# Altium footprint library Copy of PcbLib1.PcbLib: 29 footprints (part 2 of 2)
Each footprint in its own frame and in the unit in brackets; x right, y up, seen from the top. Pads: shape width x height; smd on the part's side, far side on the other; paste and mask are expansions set on the pad; w line width, h text height; cw(c..) or ccw(c..) is an arc to the next point about the centre after c.
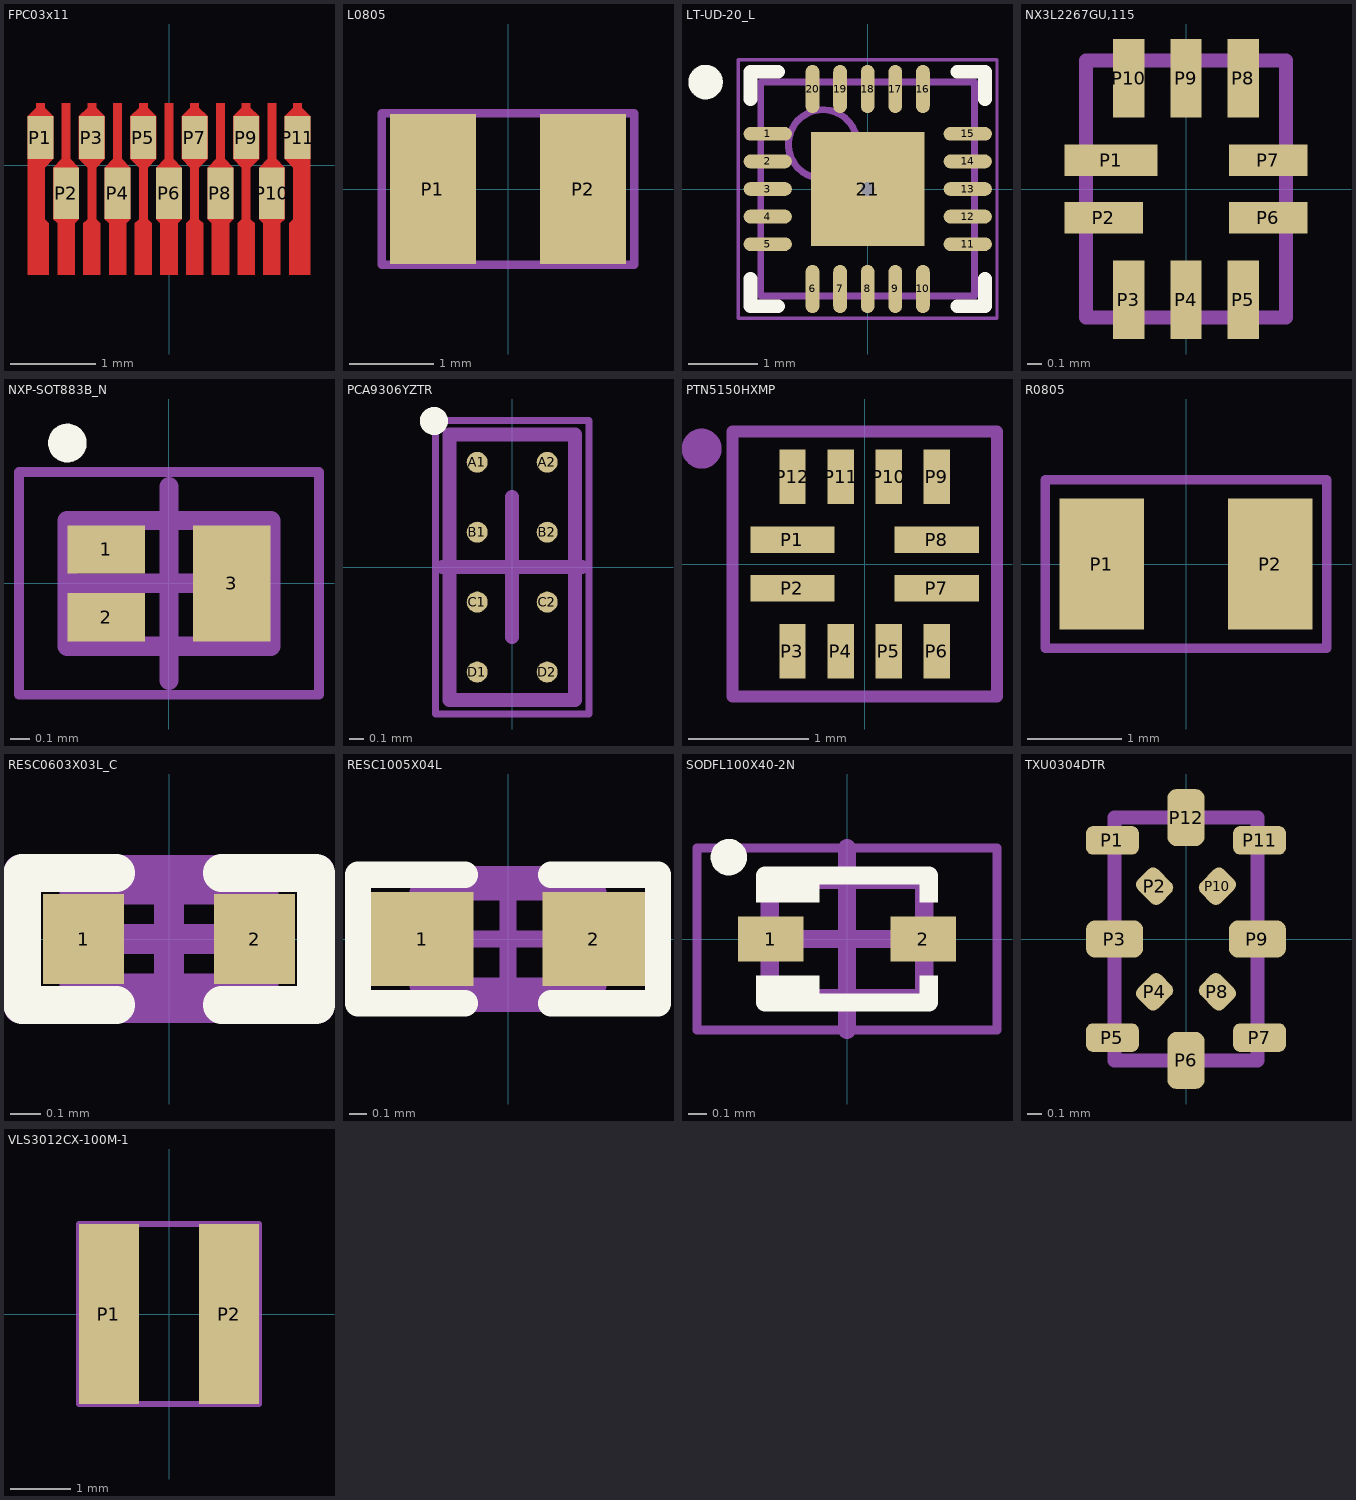
[diagram p1: the footprints below, top view; thin cyan lines are the x and y axes]

## FPC03x11 [mm]
pads (11):
  rect 0.3x0.5 smd: P1(-1.5,0.325) P3(-0.9,0.325) P5(-0.3,0.325) P7(0.3,0.325) P9(0.9,0.325) P11(1.5,0.325)
  rect 0.3x0.6 smd: P2(-1.2,-0.325) P4(-0.6,-0.325) P6(0,-0.325) P8(0.6,-0.325) P10(1.2,-0.325)
Top Layer:
  region: -1.65,0.575 -1.55,0.675 -1.55,0.725 -1.45,0.725 -1.45,0.675 -1.35,0.575 -1.35,0.075 -1.45,-0.025 -1.45,-0.625 -1.4,-0.675 -1.4,-1.275 -1.65,-1.275
  region: -1.35,-0.025 -1.25,0.075 -1.25,0.725 -1.15,0.725 -1.15,0.075 -1.05,-0.025 -1.05,-0.625 -1.1,-0.675 -1.1,-1.275 -1.3,-1.275 -1.3,-0.675 -1.35,-0.625
  region: -1.05,0.575 -0.95,0.675 -0.95,0.725 -0.85,0.725 -0.85,0.675 -0.75,0.575 -0.75,0.075 -0.85,-0.025 -0.85,-0.625 -0.8,-0.675 -0.8,-1.275 -1,-1.275 -1,-0.675 -0.95,-0.625 -0.95,-0.025 -1.05,0.075
  region: -0.75,-0.025 -0.65,0.075 -0.65,0.725 -0.55,0.725 -0.55,0.075 -0.45,-0.025 -0.45,-0.625 -0.5,-0.675 -0.5,-1.275 -0.7,-1.275 -0.7,-0.675 -0.75,-0.625
  region: -0.45,0.575 -0.35,0.675 -0.35,0.725 -0.25,0.725 -0.25,0.675 -0.15,0.575 -0.15,0.075 -0.25,-0.025 -0.25,-0.625 -0.2,-0.675 -0.2,-1.275 -0.4,-1.275 -0.4,-0.675 -0.35,-0.625 -0.35,-0.025 -0.45,0.075
  region: -0.15,-0.025 -0.05,0.075 -0.05,0.725 0.05,0.725 0.05,0.075 0.15,-0.025 0.15,-0.625 0.1,-0.675 0.1,-1.275 -0.1,-1.275 -0.1,-0.675 -0.15,-0.625
  region: 0.15,0.575 0.25,0.675 0.25,0.725 0.35,0.725 0.35,0.675 0.45,0.575 0.45,0.075 0.35,-0.025 0.35,-0.625 0.4,-0.675 0.4,-1.275 0.2,-1.275 0.2,-0.675 0.25,-0.625 0.25,-0.025 0.15,0.075
  region: 0.45,-0.025 0.55,0.075 0.55,0.725 0.65,0.725 0.65,0.075 0.75,-0.025 0.75,-0.625 0.7,-0.675 0.7,-1.275 0.5,-1.275 0.5,-0.675 0.45,-0.625
  region: 0.75,0.575 0.85,0.675 0.85,0.725 0.95,0.725 0.95,0.675 1.05,0.575 1.05,0.075 0.95,-0.025 0.95,-0.625 1,-0.675 1,-1.275 0.8,-1.275 0.8,-0.675 0.85,-0.625 0.85,-0.025 0.75,0.075
  region: 1.05,-0.025 1.15,0.075 1.15,0.725 1.25,0.725 1.25,0.075 1.35,-0.025 1.35,-0.625 1.3,-0.675 1.3,-1.275 1.1,-1.275 1.1,-0.675 1.05,-0.625
  region: 1.35,0.575 1.45,0.675 1.45,0.725 1.55,0.725 1.55,0.675 1.65,0.575 1.65,-1.275 1.4,-1.275 1.4,-0.675 1.45,-0.625 1.45,-0.025 1.35,0.075

## L0805 [mm]
height 0.9
pads (2):
  rect 1.02x1.78 smd: P1(-0.89,0) P2(0.89,0)
Top Designator:
  text ".Designator" at 0.1,-0.2 h0.6
Top Assembly:
  lines w0.1: -1.5,-0.9 -1.5,0.9 1.5,0.9 1.5,-0.9 -1.5,-0.9
Top Component Outline:
  lines w0.1: -1.5,-0.9 -1.5,0.9 1.5,0.9 1.5,-0.9 -1.5,-0.9
3D body "74479023.stp": height 1.25, standoff 0, extent -1,-0.625 1,0.625

## LT-UD-20_L [mm] "QFN, 20-Leads, Body 3.1x3.1mm, Pitch 0.4mm, Thermal Pad 1.65x1.65mm, IPC High Density"
height 0.8
pads (21):
  oval 0.7x0.2 smd: 1(-1.45,0.8) 2(-1.45,0.4) 3(-1.45,0) 4(-1.45,-0.4) 5(-1.45,-0.8) 11(1.45,-0.8) 12(1.45,-0.4) 13(1.45,0) 14(1.45,0.4) 15(1.45,0.8)
  oval 0.2x0.7 smd: 6(-0.8,-1.45) 7(-0.4,-1.45) 8(0,-1.45) 9(0.4,-1.45) 10(0.8,-1.45) 16(0.8,1.45) 17(0.4,1.45) 18(0,1.45) 19(-0.4,1.45) 20(-0.8,1.45)
  rect 1.65x1.65 smd: 21(0,0)
via 0,0 diameter 0.5 hole 0.2
Top Overlay:
  circle w0.25: c-2.35,1.55 r0.125
  lines w0.2: -1.7,-1.3 -1.7,-1.7 -1.3,-1.7 ; -1.7,1.3 -1.7,1.7 -1.3,1.7 ; 1.3,-1.7 1.7,-1.7 1.7,-1.3 ; 1.3,1.7 1.7,1.7 1.7,1.3
Top 3D Body:
  circle w0.1: c-0.65,0.65 r0.5
  lines w0.1: -1.55,-1.55 1.55,-1.55 1.55,1.55 -1.55,1.55 -1.55,-1.55
Top Courtyard:
  lines w0.05: -1.875,-1.875 1.875,-1.875 1.875,1.875 -1.875,1.875 -1.875,-1.875
  lines w0.1: -0.5,0 0.5,0 ; 0,-0.5 0,0.5
3D body: height 0.8, standoff 0, extent -1.55,-1.55 1.55,1.55

## NX3L2267GU,115 [mm]
height 1
pads (10):
  rect 0.65x0.22 smd: P1(-0.525,0.2)
  rect 0.55x0.22 smd: P2(-0.575,-0.2) P6(0.575,-0.2) P7(0.575,0.2)
  rect 0.22x0.55 smd: P3(-0.4,-0.775) P4(0,-0.775) P5(0.4,-0.775) P8(0.4,0.775) P9(0,0.775) P10(-0.4,0.775)
Top Assembly:
  lines w0.1: -0.7,-0.9 -0.7,0.9 0.7,0.9 0.7,-0.9 -0.7,-0.9
Top Component Outline:
  lines w0.1: -0.7,-0.9 -0.7,0.9 0.7,0.9 0.7,-0.9 -0.7,-0.9
3D body: height 0.5, standoff 0, extent -0.7,-0.9 0.7,0.9

## NXP-SOT883B_N [mm] "SON, 3-Leads, Body 1.05x0.65mm, Pitch 0.35mm, IPC Medium Density"
height 0.4
pads (3):
  rect 0.4x0.25 smd: 1(-0.325,0.175) 2(-0.325,-0.175)
  rect 0.4x0.6 smd: 3(0.325,0)
Top Overlay:
  circle w0.1: c-0.525,0.725 r0.05
Top 3D Body:
  lines w0.1: -0.525,-0.325 0.525,-0.325 0.525,0.325 -0.525,0.325 -0.525,-0.325
Top Courtyard:
  lines w0.05: -0.775,-0.575 0.775,-0.575 0.775,0.575 -0.775,0.575 -0.775,-0.575
  lines w0.1: -0.5,0 0.5,0 ; 0,-0.5 0,0.5
3D body: height 0.4, standoff 0.04, extent -0.525,-0.325 0.525,0.325

## PCA9306YZTR [mm] "BGA, 8-Leads, Body 1.9x0.9mm, Pitch 0.5mm"
height 0.63
pads (8):
  round 0.15 smd: A1(-0.25,0.75) A2(0.25,0.75) B1(-0.25,0.25) B2(0.25,0.25) C1(-0.25,-0.25) C2(0.25,-0.25) D1(-0.25,-0.75) D2(0.25,-0.75)
Top Overlay:
  circle w0.1: c-0.56,1.045 r0.05
Top 3D Body:
  lines w0.1: -0.45,-0.95 0.45,-0.95 0.45,0.95 -0.45,0.95 -0.45,-0.95
Top Courtyard:
  lines w0.05: -0.55,-1.05 0.55,-1.05 0.55,1.05 -0.55,1.05 -0.55,-1.05
  lines w0.1: -0.5,0 0.5,0 ; 0,-0.5 0,0.5
3D body: height 0.63, standoff 0.15, extent -0.45,-0.95 0.45,0.95

## PTN5150HXMP [mm] "USB Interface IC USB Type C (CC) control logic"
height 0.35
pads (12):
  rect 0.7x0.22 smd: P1(-0.6,0.2) P2(-0.6,-0.2) P7(0.6,-0.2) P8(0.6,0.2)
  rect 0.22x0.45 smd: P3(-0.6,-0.725) P4(-0.2,-0.725) P5(0.2,-0.725) P6(0.6,-0.725) P9(0.6,0.725) P10(0.2,0.725) P11(-0.2,0.725) P12(-0.6,0.725)
Top Designator:
  text ".Designator" at 0.1,0.3 h0.6
Top Assembly:
  circle w0.254: c-1.355,0.959 r0.039
  lines w0.1: -1.1,-1.1 1.1,-1.1 1.1,1.1 -1.1,1.1 -1.1,-1.1
Top Component Outline:
  lines w0.1: -1.1,-1.1 1.1,-1.1 1.1,1.1 -1.1,1.1 -1.1,-1.1
3D body: height 0.35, standoff 0, extent -0.8,-0.8 0.8,0.8

## R0805 [mm]
height 0.6
pads (2):
  rect 0.9x1.4 smd: P1(-0.9,0) P2(0.9,0)
Top Designator:
  text ".Designator" at 0.1,-0.2 h0.6
Top Assembly:
  lines w0.1: -1.5,-0.9 -1.5,0.9 1.5,0.9 1.5,-0.9 -1.5,-0.9
Top Component Outline:
  lines w0.1: -1.5,-0.9 -1.5,0.9 1.5,0.9 1.5,-0.9 -1.5,-0.9
3D body "User Library-CR2012-0805.step": height 0.6, standoff 0, extent -1,-0.625 1,0.625

## RESC0603X03L_C [mm]
pads (2):
  rect 0.27x0.3 smd: 1(-0.285,0) 2(0.285,0)
Top Overlay:
  lines w0.125: -0.175,-0.22 -0.49,-0.22 -0.49,0.22 -0.175,0.22 ; 0.175,-0.22 0.49,-0.22 0.49,0.22 0.175,0.22
Bottom Component Outline:
  lines w0.1: -0.315,-0.165 -0.315,0.165 0.315,0.165 0.315,-0.165 -0.315,-0.165
  text ".Designator" at -0.306,0.268 h0.3
Top Courtyard:
  lines w0.1: -0.165,0 0.165,0 ; 0,-0.165 0,0.165 ; -0.5,-0.23 -0.5,0.23 0.5,0.23 0.5,-0.23 -0.5,-0.23
3D body "User Library-res0201-1.step": height 0.23, standoff 0, extent -0.3,-0.15 0.3,0.15

## RESC1005X04L [mm]
pads (2):
  rect 0.6x0.55 smd: 1(-0.5,0) 2(0.5,0)
Top Overlay:
  lines w0.152: -0.25,-0.375 -0.875,-0.375 -0.875,0.375 -0.25,0.375 ; 0.25,-0.375 0.875,-0.375 0.875,0.375 0.25,0.375
Bottom Component Outline:
  lines w0.1: -0.525,-0.275 -0.525,0.275 0.525,0.275 0.525,-0.275 -0.525,-0.275
  text ".Designator" at -0.432,-0.152 h0.3
Top Courtyard:
  lines w0.1: -0.275,0 0.275,0 ; 0,-0.275 0,0.275 ; -0.875,-0.375 0.875,-0.375 0.875,0.375 -0.875,0.375 -0.875,-0.375
3D body "User Library-res0402-1.step": height 0.3, standoff 0, extent -0.5,-0.25 0.5,0.25

## SODFL100X40-2N [mm]
pads (2):
  rect 0.36x0.25 smd: 1(-0.42,0) 2(0.42,0)
Top Overlay:
  circle w0.1: c-0.65,0.45 r0.05
  rectangle: 0.4,0.2 0.5,0.35
  rectangle: 0.4,-0.35 0.5,-0.2
  rectangle: -0.5,-0.35 -0.15,-0.2
  rectangle: -0.5,0.2 -0.15,0.325
  lines w0.1: -0.45,-0.3 -0.45,-0.35 0.45,-0.35 0.45,-0.3 ; -0.45,0.3 -0.45,0.35 0.45,0.35 0.45,0.3
Bottom Component Outline:
  lines w0.1: -0.425,-0.325 -0.425,0.325 0.425,0.325 0.425,-0.325 -0.425,-0.325
  text ".Designator" at -0.724,-0.177 h0.38
Top Courtyard:
  lines w0.05: -0.825,-0.5 0.825,-0.5 0.825,0.5 -0.825,0.5 -0.825,-0.5
  lines w0.1: -0.5,0 0.5,0 ; 0,-0.5 0,0.5
3D body "SODFL100X40-2N.step": height 0.4, standoff 0, extent -0.5,-0.325 0.5,0.325

## TXU0304DTR [mm]
height 0.4
pads (12):
  rrect50% 0.37x0.2 smd mask+0.05: P1(-0.515,0.69) P5(-0.515,-0.69) P7(0.515,-0.69) P11(0.515,0.69)
  rrect50% 0.2x0.23 smd rot 45 mask+0.05: P2(-0.22,0.37) P8(0.22,-0.37)
  rrect50% 0.4x0.26 smd mask+0.05: P3(-0.5,0) P9(0.5,0)
  rrect50% 0.2x0.23 smd rot 135 mask+0.05: P4(-0.22,-0.37) P10(0.22,0.37)
  rrect50% 0.26x0.4 smd mask+0.05: P6(0,-0.85) P12(0,0.85)
Top Designator:
  text ".Designator" at 0.1,0.3 h0.6
Top Assembly:
  lines w0.1: -0.5,-0.85 -0.5,0.85 0.5,0.85 0.5,-0.85 -0.5,-0.85
Top Component Outline:
  lines w0.1: -0.5,-0.85 -0.5,0.85 0.5,0.85 0.5,-0.85 -0.5,-0.85
3D body: height 0.4, standoff 0, extent -0.5,-0.85 0.5,0.85

## VLS3012CX-100M-1 [mm]
height 1.2
pads (2):
  rect 1x3 smd: P1(-1,0) P2(1,0)
Top Designator:
  text ".Designator" at 0.1,0.3 h0.6
Top Assembly:
  lines w0.1: -1.5,-1.5 1.5,-1.5 1.5,1.5 -1.5,1.5 -1.5,-1.5
Top Component Outline:
  lines w0.1: -1.5,-1.5 1.5,-1.5 1.5,1.5 -1.5,1.5 -1.5,-1.5
3D body "vls3012cx-1.step": height 1.19, standoff -0.01, extent -1.502,-1.509 1.502,1.509